# EAGLE library part PIC18F4680 (library pic18f4680)
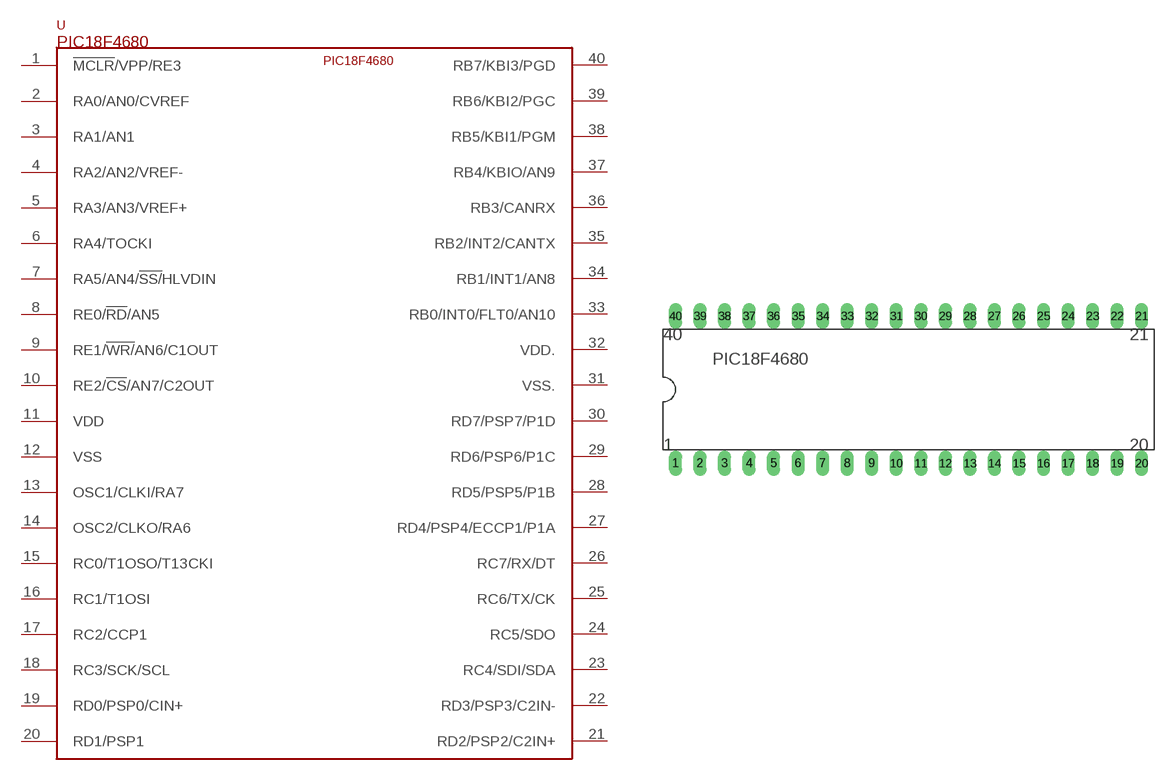
[diagram p0: symbol with the pads of PDIP-40; footprint PDIP-40]

Designator prefix -

## PIC18F4680  [PDIP-40]
1  !MCLR!/VPP/RE3  pwr
2  RA0/AN0/CVREF
3  RA1/AN1
4  RA2/AN2/VREF-
5  RA3/AN3/VREF+
6  RA4/TOCKI
7  RA5/AN4/!SS/!HLVDIN
8  RE0/!RD!/AN5
9  RE1/!WR/!AN6/C1OUT
10  RE2/!CS!/AN7/C2OUT
11  VDD  pwr
12  VSS  pwr
13  OSC1/CLKI/RA7  in
14  OSC2/CLKO/RA6
15  RC0/T1OSO/T13CKI
16  RC1/T1OSI
17  RC2/CCP1
18  RC3/SCK/SCL
19  RD0/PSP0/CIN+
20  RD1/PSP1
21  RD2/PSP2/C2IN+
22  RD3/PSP3/C2IN-
23  RC4/SDI/SDA
24  RC5/SDO
25  RC6/TX/CK
26  RC7/RX/DT
27  RD4/PSP4/ECCP1/P1A
28  RD5/PSP5/P1B
29  RD6/PSP6/P1C
30  RD7/PSP7/P1D
31  VSS.  pwr
32  VDD.  pwr
33  RB0/INT0/FLT0/AN10
34  RB1/INT1/AN8
35  RB2/INT2/CANTX
36  RB3/CANRX
37  RB4/KBIO/AN9
38  RB5/KBI1/PGM
39  RB6/KBI2/PGC
40  RB7/KBI3/PGD

## Footprint PDIP-40 (pad centres in mm)
drill 0.813 long: 1 -19.05,-8.89; 2 -16.51,-8.89; 3 -13.97,-8.89; 4 -11.43,-8.89; 5 -8.89,-8.89; 6 -6.35,-8.89; 7 -3.81,-8.89; 8 -1.27,-8.89; 9 1.27,-8.89; 10 3.81,-8.89; 11 6.35,-8.89; 12 8.89,-8.89; 13 11.43,-8.89; 14 13.97,-8.89; 15 16.51,-8.89; 16 19.05,-8.89; 17 21.59,-8.89; 18 24.13,-8.89; 19 26.67,-8.89; 20 29.21,-8.89; 21 29.21,6.35; 22 26.67,6.35; 23 24.13,6.35; 24 21.59,6.35; 25 19.05,6.35; 26 16.51,6.35; 27 13.97,6.35; 28 11.43,6.35; 29 8.89,6.35; 30 6.35,6.35; 31 3.81,6.35; 32 1.27,6.35; 33 -1.27,6.35; 34 -3.81,6.35; 35 -6.35,6.35; 36 -8.89,6.35; 37 -11.43,6.35; 38 -13.97,6.35; 39 -16.51,6.35; 40 -19.05,6.35